# Altium schematic symbol library MyLibs_Power_Management.SchLib: 6 symbols
Pins are listed as number, name and electrical type; pins without a type are passive.

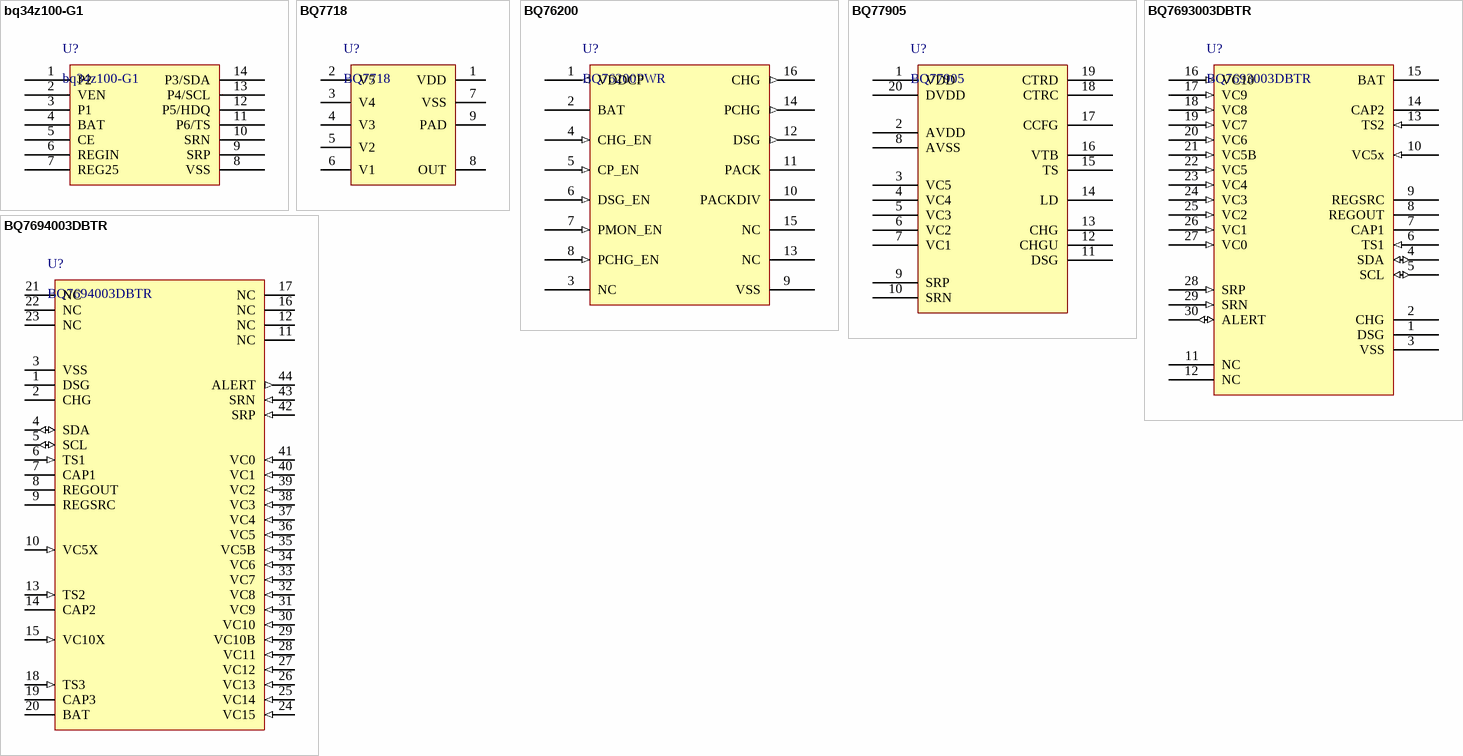
[diagram p0: symbols bq34z100-G1 to BQ7694003DBTR]

## bq34z100-G1
designator U?
IC BATT MGMT LIION/LPO4 14TSSOP
pins: 1 P2, 2 VEN, 3 P1, 4 BAT, 5 CE, 6 REGIN, 7 REG25, 8 VSS, 9 SRP, 10 SRN, 11 P6/TS, 12 P5/HDQ, 13 P4/SCL, 14 P3/SDA

## BQ7718
designator U?
FAMILY 2-5S OVERVOLTAGE PROTECTOR
pins: 1 VDD, 2 V5, 3 V4, 4 V3, 5 V2, 6 V1, 7 VSS, 8 OUT, 9 PAD

## BQ76200
designator U?, comment BQ76200PWR
HIGH-SIDE N-CH FET DRVR 16TSSOP
pins: 1 VDDCP (out), 2 BAT, 3 NC, 4 CHG_EN (in), 5 CP_EN (in), 6 DSG_EN (in), 7 PMON_EN (in), 8 PCHG_EN (in), 9 VSS, 10 PACKDIV, 11 PACK, 12 DSG (out), 13 NC, 14 PCHG (out), 15 NC, 16 CHG (out)

## BQ77905
designator U?
IC LITHIUM BATT PROTECT 20TSSOP
pins: 1 VDD, 2 AVDD, 3 VC5, 4 VC4, 5 VC3, 6 VC2, 7 VC1, 8 AVSS, 9 SRP, 10 SRN, 11 DSG, 12 CHGU, 13 CHG, 14 LD, 15 TS, 16 VTB, 17 CCFG, 18 CTRC, 19 CTRD, 20 DVDD

## BQ7693003DBTR
designator U?
IC BATT MGMT LI-ION AFE 30TSSOP
pins: 1 DSG, 2 CHG, 3 VSS, 4 SDA (io), 5 SCL (io), 6 TS1 (in), 7 CAP1, 8 REGOUT, 9 REGSRC, 10 VC5x (in), 11 NC, 12 NC, 13 TS2 (in), 14 CAP2, 15 BAT, 16 VC10 (in), 17 VC9 (in), 18 VC8 (in), 19 VC7 (in), 20 VC6 (in), 21 VC5B (in), 22 VC5 (in), 23 VC4 (in), 24 VC3 (in), 25 VC2 (in), 26 VC1 (in), 27 VC0 (in), 28 SRP (in), 29 SRN (in), 30 ALERT (io)

## BQ7694003DBTR
designator U?
IC BATT MFMT LI-ION AFE 44TSOP
pins: 1 DSG, 2 CHG, 3 VSS, 4 SDA (io), 5 SCL (io), 6 TS1 (in), 7 CAP1, 8 REGOUT, 9 REGSRC, 10 VC5X (in), 11 NC, 12 NC, 13 TS2 (in), 14 CAP2, 15 VC10X (in), 16 NC, 17 NC, 18 TS3 (in), 19 CAP3, 20 BAT, 21 NC, 22 NC, 23 NC, 24 VC15 (in), 25 VC14 (in), 26 VC13 (in), 27 VC12 (in), 28 VC11 (in), 29 VC10B (in), 30 VC10 (in), 31 VC9 (in), 32 VC8 (in), 33 VC7 (in), 34 VC6 (in), 35 VC5B (in), 36 VC5 (in), 37 VC4 (in), 38 VC3 (in), 39 VC2 (in), 40 VC1 (in), 41 VC0 (in), 42 SRP (in), 43 SRN (in), 44 ALERT (out)